# Altium footprint library Transformer ETD34.PcbLib: 1 footprints
Each footprint in its own frame and in the unit in brackets; x right, y up, seen from the top. Pads: shape width x height; smd on the part's side, far side on the other; paste and mask are expansions set on the pad; w line width, h text height; cw(c..) or ccw(c..) is an arc to the next point about the centre after c.
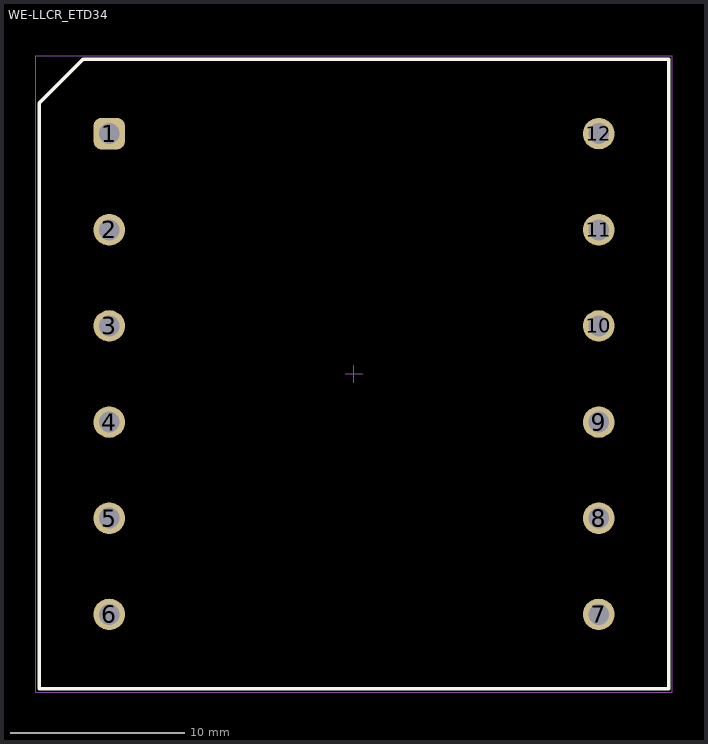
[diagram p0: the footprint, top view; thin cyan lines are the x and y axes]

## WE-LLCR_ETD34 [mm] "Resonant Converter, body 36x36mm"
height 26
pads (12):
  rrect50% 1.8x1.8 hole 1.2: 1(-1284,-1256.25)
  round 1.8 hole 1.2: 2(-1284,-1261.75) 3(-1284,-1267.25) 4(-1284,-1272.75) 5(-1284,-1278.25) 6(-1284,-1283.75) 7(-1256,-1283.75) 8(-1256,-1278.25) 9(-1256,-1272.75) 10(-1256,-1267.25) 11(-1256,-1261.75) 12(-1256,-1256.25)
Top Overlay:
  lines w0.2: -1288,-1288 -1288,-1254.5 -1285.5,-1252 -1252,-1252 -1252,-1288 -1288,-1288
Top Designator:
  text ".Designator" at -1277.498,-1270.5 h1.5
Top Component Outline:
  lines w0.1: -1288,-1288 -1252,-1288 -1252,-1252 -1285.5,-1252 -1288,-1254.5 -1288,-1288
Top Courtyard:
  lines w0.05: -1270.5,-1270 -1269.5,-1270 ; -1270,-1270.5 -1270,-1269.5 ; -1288.2,-1288.2 -1251.8,-1288.2 -1251.8,-1251.8 -1288.2,-1251.8 -1288.2,-1288.2
3D body "ETD34_760895431.stp": height 24.56, standoff -3.55, extent -1287.5,-1287.35 -1252.5,-1252.65